# EAGLE library part CC110L_RTK_20 (library weather_station)
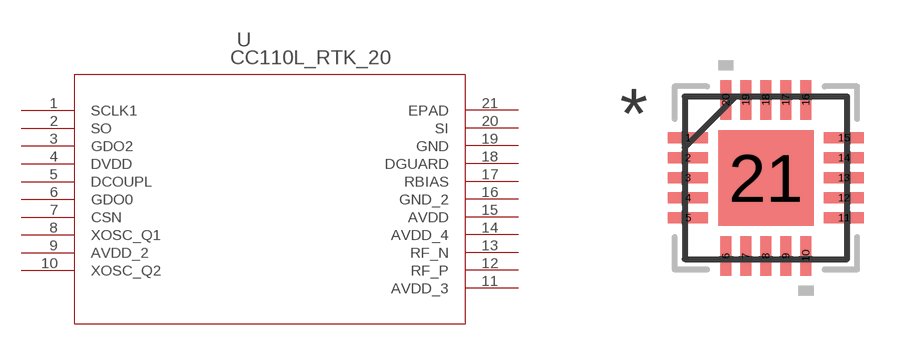
[diagram p7: symbol with the pads of RTK20_2P4X2P4; footprint RTK20_2P4X2P4]

Designator prefix U

## CC110L_RTK_20 (DATASHEETURL: http://www.ti.com/lit/gpn/CC110L; DESCRIPTION: Value Line Transceiver; FAMILY_NAME: SUB-1 GHZ; GENERIC_PART_NUMBER: CC110L; INDUSTRY_STD_PKG_TYPE: VQFN; MANUFACTURER: Texas Instruments; PACKAGE_DESIGNATOR: RTK; PIN_COUNT: 20)  [RTK20_2P4X2P4]
1  SCLK1  pas
2  SO  out
3  GDO2  out
4  DVDD  pwr
5  DCOUPL  pas
6  GDO0  out
7  CSN  pas
8  XOSC_Q1  pas
9  AVDD_2  pwr
10  XOSC_Q2  pas
11  AVDD_3  pwr
12  RF_P  pas
13  RF_N  pas
14  AVDD_4  pwr
15  AVDD  pwr
16  GND_2  pwr
17  RBIAS  pas
18  DGUARD  pas
19  GND  pwr
20  SI  in
21  EPAD  pwr

## Footprint RTK20_2P4X2P4 (pad centres in mm)
smd 0.991 x 0.279: 1 -1.95,1; 2 -1.95,0.5; 3 -1.95,0; 4 -1.95,-0.5; 5 -1.95,-1; 11 1.95,-1; 12 1.95,-0.5; 13 1.95,0; 14 1.95,0.5; 15 1.95,1
smd 0.279 x 0.991: 6 -1,-1.95; 7 -0.5,-1.95; 8 0,-1.95; 9 0.5,-1.95; 10 1,-1.95; 16 1,1.95; 17 0.5,1.95; 18 0,1.95; 19 -0.5,1.95; 20 -1,1.95
smd 2.388 x 2.388: 21 0,0